# Altium schematic symbol library CN HDR 4POS.Schlib: 1 symbol
Pins are listed as number, name and electrical type; pins without a type are passive.

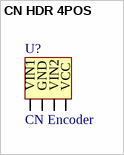
[diagram p0: symbol CN HDR 4POS]

## CN HDR 4POS
designator U?, comment CN Encoder
CN HDR R/A 4POS 1.5MM; MF: JST Sales America Inc.; MP: S4B-ZR(LF)(SN); Rating: 1A; Digikey: 455-1671-ND; Digikey Link: https://www.digikey.ca/products/en?keywords=455-1671-ND; Price: 0.324 CAD; Package: N/A; Value: N/A; Supplier 1: Digi-Key; Supplier Part Number 1: 455-1671-ND
footprint EncoderConnector (CONN HEADER R/A 4POS 1.5MM)
pins: GND (power), VCC (power), VIN1 (in), VIN2 (in)